# EAGLE library part DAC813 (library burr-brown-5a)
Microprocessor-Compatible 12-Bit DAC
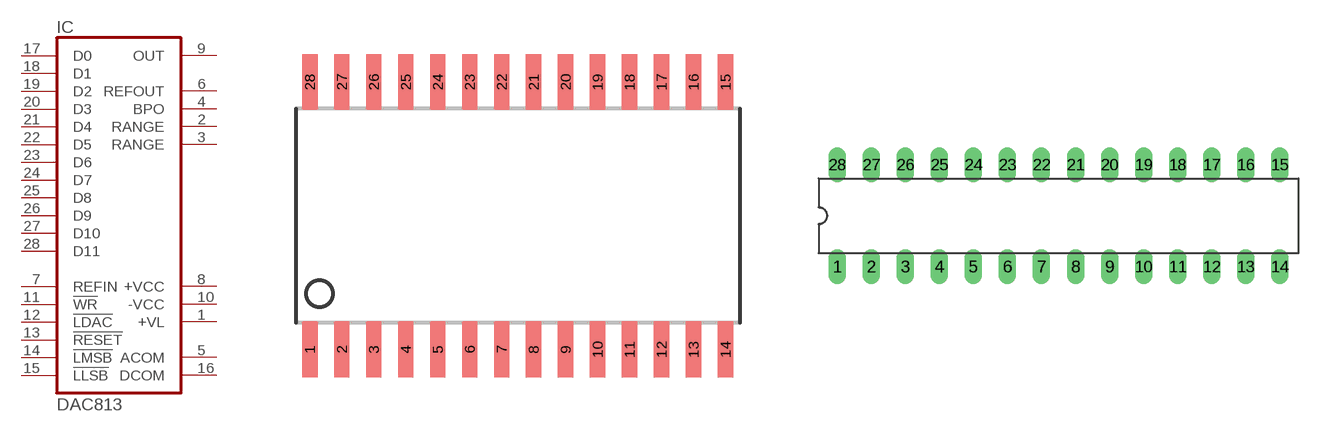
[diagram p122: symbol with the pads of SO28-3; footprints SO28-3, DIL28-3]

Designator prefix IC

## DAC813U  [SO28-3]
1  +VL  pwr
2  RANGE  pas
3  RANGE  pas
4  BPO  pas
5  ACOM  pwr
6  REFOUT  out
7  REFIN  in
8  +VCC  pwr
9  OUT  out
10  -VCC  pwr
11  !WR  in
12  !LDAC  in
13  !RESET  in
14  !LMSB  in
15  !LLSB  in
16  DCOM  pwr
17  D0  in
18  D1  in
19  D2  in
20  D3  in
21  D4  in
22  D5  in
23  D6  in
24  D7  in
25  D8  in
26  D9  in
27  D10  in
28  D11  in

## DAC813P  [DIL28-3]
Pads as for SO28-3

## Footprint SO28-3 (pad centres in mm)
Small Outline Package
smd 0.61 x 2.21: 1 -8.255,-5.315; 2 -6.985,-5.315; 3 -5.715,-5.315; 4 -4.445,-5.315; 5 -3.175,-5.315; 6 -1.905,-5.315; 7 -0.635,-5.315; 8 0.635,-5.315; 9 1.905,-5.315; 10 3.175,-5.315; 11 4.445,-5.315; 12 5.715,-5.315; 13 6.985,-5.315; 14 8.255,-5.315; 15 8.255,5.315; 16 6.985,5.315; 17 5.715,5.315; 18 4.445,5.315; 19 3.175,5.315; 20 1.905,5.315; 21 0.635,5.315; 22 -0.635,5.315; 23 -1.905,5.315; 24 -3.175,5.315; 25 -4.445,5.315; 26 -5.715,5.315; 27 -6.985,5.315; 28 -8.255,5.315

## Footprint DIL28-3 (pad centres in mm)
Dual In Line 0.3 inch
drill 0.813 long: 1 -16.51,-3.81; 2 -13.97,-3.81; 3 -11.43,-3.81; 4 -8.89,-3.81; 5 -6.35,-3.81; 6 -3.81,-3.81; 7 -1.27,-3.81; 8 1.27,-3.81; 9 3.81,-3.81; 10 6.35,-3.81; 11 8.89,-3.81; 12 11.43,-3.81; 13 13.97,-3.81; 14 16.51,-3.81; 15 16.51,3.81; 16 13.97,3.81; 17 11.43,3.81; 18 8.89,3.81; 19 6.35,3.81; 20 3.81,3.81; 21 1.27,3.81; 22 -1.27,3.81; 23 -3.81,3.81; 24 -6.35,3.81; 25 -8.89,3.81; 26 -11.43,3.81; 27 -13.97,3.81; 28 -16.51,3.81